# Altium schematic symbol library MQ7.SchLib: 1 symbol
Pins are listed as number, name and electrical type; pins without a type are passive.

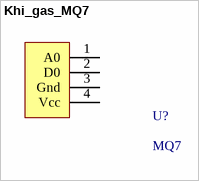
[diagram p0: symbol Khi_gas_MQ7]

## Khi_gas_MQ7
designator U?, comment MQ7
footprint MQ7
pins: 1 A0, 2 D0, 3 Gnd, 4 Vcc